# Altium schematic symbol library Harry_Potter_On_Semiconductor.SchLib: 2 symbols
Pins are listed as number, name and electrical type; pins without a type are passive.

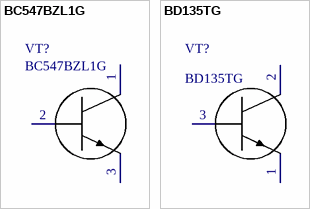
[diagram p0: symbols BC547BZL1G to BD135TG]

## BC547BZL1G
designator VT?
NPN Transistors; Manufacturing: On Semiconductor; Device Marking: BC547B; Op Temp: -50 to +150; Package: TO-92; PartNumber: BC547BZL1G
footprint TO-92 (2) (TSOP, 24-Leads, Body 7,80x4,40mm, Pitch 0,65mm, IPC Medium Density)
footprint TO-92 (1) (TSOP, 24-Leads, Body 7,80x4,40mm, Pitch 0,65mm, IPC Medium Density)
pins: 1 C, 2 B, 3 E

## BD135TG
designator VT?
1.5 A POWER TRANSISTORS  NPN; Manufacturing: On Semiconductor; Op Temp: -55 to +150; Device Marking: BD135G; Package: TO-225; PartNumber: BD135TG
footprint TO-225 (TSOP, 24-Leads, Body 7,80x4,40mm, Pitch 0,65mm, IPC Medium Density)
pins: 1 E, 2 C, 3 B